# Altium footprint library PCB Footprints.PcbLib: 7 footprints
Each footprint in its own frame and in the unit in brackets; x right, y up, seen from the top. Pads: shape width x height; smd on the part's side, far side on the other; paste and mask are expansions set on the pad; w line width, h text height; cw(c..) or ccw(c..) is an arc to the next point about the centre after c.
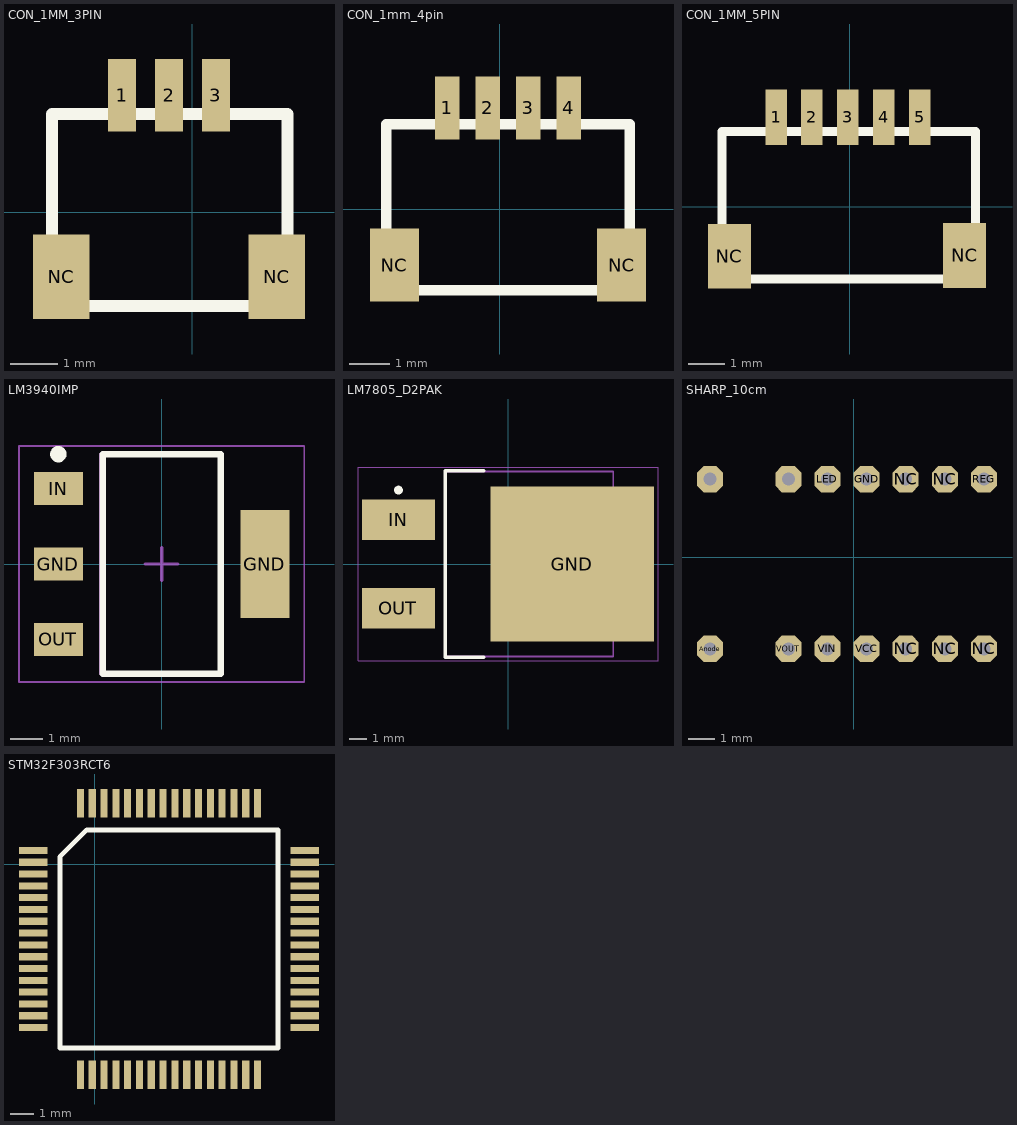
[diagram p0: the footprints below, top view; thin cyan lines are the x and y axes]

## CON_1MM_3PIN [mm]
pads (5):
  rect 0.6x1.55 smd: 1(-1.5,2.5) 2(-0.5,2.5) 3(0.5,2.5)
  rect 1.2x1.8 smd: NC(-2.8,-1.375) NC(1.8,-1.375)
Top Overlay:
  lines w0.254: -3,-2 -3,2.1 2.025,2.1 2.025,-2 -3,-2

## CON_1mm_4pin [mm]
pads (6):
  rect 0.6x1.55 smd: 1(-1.3,2.5) 2(-0.3,2.5) 3(0.7,2.5) 4(1.7,2.5)
  rect 1.2x1.8 smd: NC(-2.6,-1.375) NC(3,-1.375)
Top Overlay:
  lines w0.254: -2.8,-2 -2.8,2.1 3.2,2.1 3.2,-2 -2.8,-2

## CON_1MM_5PIN [mm]
pads (7):
  rect 0.6x1.55 smd: 1(-2.05,2.5) 2(-1.05,2.5) 3(-0.05,2.5) 4(0.95,2.5) 5(1.95,2.5)
  rect 1.2x1.8 smd: NC(-3.35,-1.375) NC(3.2,-1.35)
Top Overlay:
  lines w0.254: -3.55,-2 3.5,-2 3.5,2.1 -3.55,2.1 -3.55,-2

## LM3940IMP [mm] "LM3940IMIP"
height 1.6
pads (4):
  rect 1.5x1 smd: GND(-3.15,0) IN(-3.15,2.3) OUT(-3.15,-2.3)
  rect 1.5x3.3 smd: GND(3.15,0)
Top Overlay:
  circle w0.25: c-3.15,3.35 r0.125
  lines w0.2: -1.8,-3.35 -1.8,3.35 1.8,3.35 1.8,-3.35 -1.8,-3.35
Mechanical 13:
  lines w0.1: -1.855,-3.35 -1.855,3.35 1.855,3.35 1.855,-3.35 -1.855,-3.35
Mechanical 15:
  lines w0.05: -4.35,-3.6 -4.35,3.6 4.35,3.6 4.35,-3.6 -4.35,-3.6
  lines w0.1: -0.5,0 0.5,0 ; 0,-0.5 0,0.5
3D body: height 1.6, standoff 0.03, extent -1.855,-3.35 1.855,3.35

## LM7805_D2PAK [mm] "LM7805"
height 4.83
pads (3):
  rect 9.4x8.9 smd: GND(3.7,0)
  rect 4.2x2.32 smd: IN(-6.3,2.54) OUT(-6.3,-2.54)
Top Overlay:
  circle w0.25: c-6.3,4.25 r0.125
  lines w0.2: -1.4,-5.35 -3.6,-5.35 -3.6,5.35 -1.4,5.35
Mechanical 13:
  lines w0.1: -3.6,-5.325 -3.6,5.325 6.05,5.325 6.05,-5.325 -3.6,-5.325
Mechanical 15:
  lines w0.05: -8.625,-5.575 -8.625,5.575 8.625,5.575 8.625,-5.575 -8.625,-5.575
  lines w0.1: -0.5,0 0.5,0 ; 0,-0.5 0,0.5
3D body: height 4.83, standoff 0.25, extent -3.6,-5.325 6.05,5.325

## SHARP_10cm [mm]
pads (14):
  oct 1x1 hole 0.5: Anode(-5.5,-3.5) Cathode(-5.5,3) GND(0.5,3) LED(-1,3) LED_FB(-2.5,3) NC(2,-3.5) NC(2,3) NC(3.5,-3.5) NC(3.5,3) NC(5,-3.5) REG(5,3) VCC(0.5,-3.5) VIN(-1,-3.5) VOUT(-2.5,-3.5)

## STM32F303RCT6 [mm]
pads (64):
  rect 0.3x1.2 smd: BOOT0(1.39,2.579) PA3(-0.61,-8.921) PA4(0.89,-8.921) PA5(1.39,-8.921) PA6(1.89,-8.921) PA7(2.39,-8.921) PA14(6.89,2.579) PA15(6.39,2.579) PB0(3.89,-8.921) PB1(4.39,-8.921) PB2(4.89,-8.921) PB3(3.89,2.579) PB4(3.39,2.579) PB5(2.89,2.579) PB6(2.39,2.579) PB7(1.89,2.579) PB8(0.89,2.579) PB9(0.39,2.579) PB10(5.39,-8.921) PB11(5.89,-8.921) PC4(2.89,-8.921) PC5(3.39,-8.921) PC10(5.89,2.579) PC11(5.39,2.579) PC12(4.89,2.579) PD2(4.39,2.579) PF4(-0.11,-8.921) VDD_1(-0.61,2.579) VDD_2(6.89,-8.921) VDD_4(0.39,-8.921) VSS_1(-0.11,2.579) VSS_2(6.39,-8.921)
  rect 1.2x0.3 smd: NRST(-2.61,-2.421) PA0(-2.61,-5.921) PA1(-2.61,-6.421) PA2(-2.61,-6.921) PA8(8.89,-2.921) PA9(8.89,-2.421) PA10(8.89,-1.921) PA11(8.89,-1.421) PA12(8.89,-0.921) PA13(8.89,-0.421) PB12(8.89,-6.921) PB13(8.89,-6.421) PB14(8.89,-5.921) PB15(8.89,-5.421) PC0(-2.61,-2.921) PC1(-2.61,-3.421) PC2(-2.61,-3.921) PC3(-2.61,-4.421) PC6(8.89,-4.921) PC7(8.89,-4.421) PC8(8.89,-3.921) PC9(8.89,-3.421) PC13(-2.61,0.079) PC14/OSC32_IN(-2.61,-0.421) PC15/OSC32_OUT(-2.61,-0.921) PF0/OSC_IN(-2.61,-1.421) PF1/OSC_OUT(-2.61,-1.921) VBAT(-2.61,0.579) VDD_3(8.89,0.579) VDDA(-2.61,-5.421) VSS_3(8.89,0.079) VSSA/VREF-(-2.61,-4.921)
Top Overlay:
  lines w0.2: -1.475,-7.786 7.755,-7.786 7.755,1.444 -0.34,1.444 -1.475,0.309 -1.475,-7.786
3D body: height 1.6, standoff 0, extent -1.575,-7.886 7.855,1.544